# Altium footprint library CAP.PcbLib: 45 footprints (part 2 of 3)
Each footprint in its own frame and in the unit in brackets; x right, y up, seen from the top. Pads: shape width x height; smd on the part's side, far side on the other; paste and mask are expansions set on the pad; w line width, h text height; cw(c..) or ccw(c..) is an arc to the next point about the centre after c.
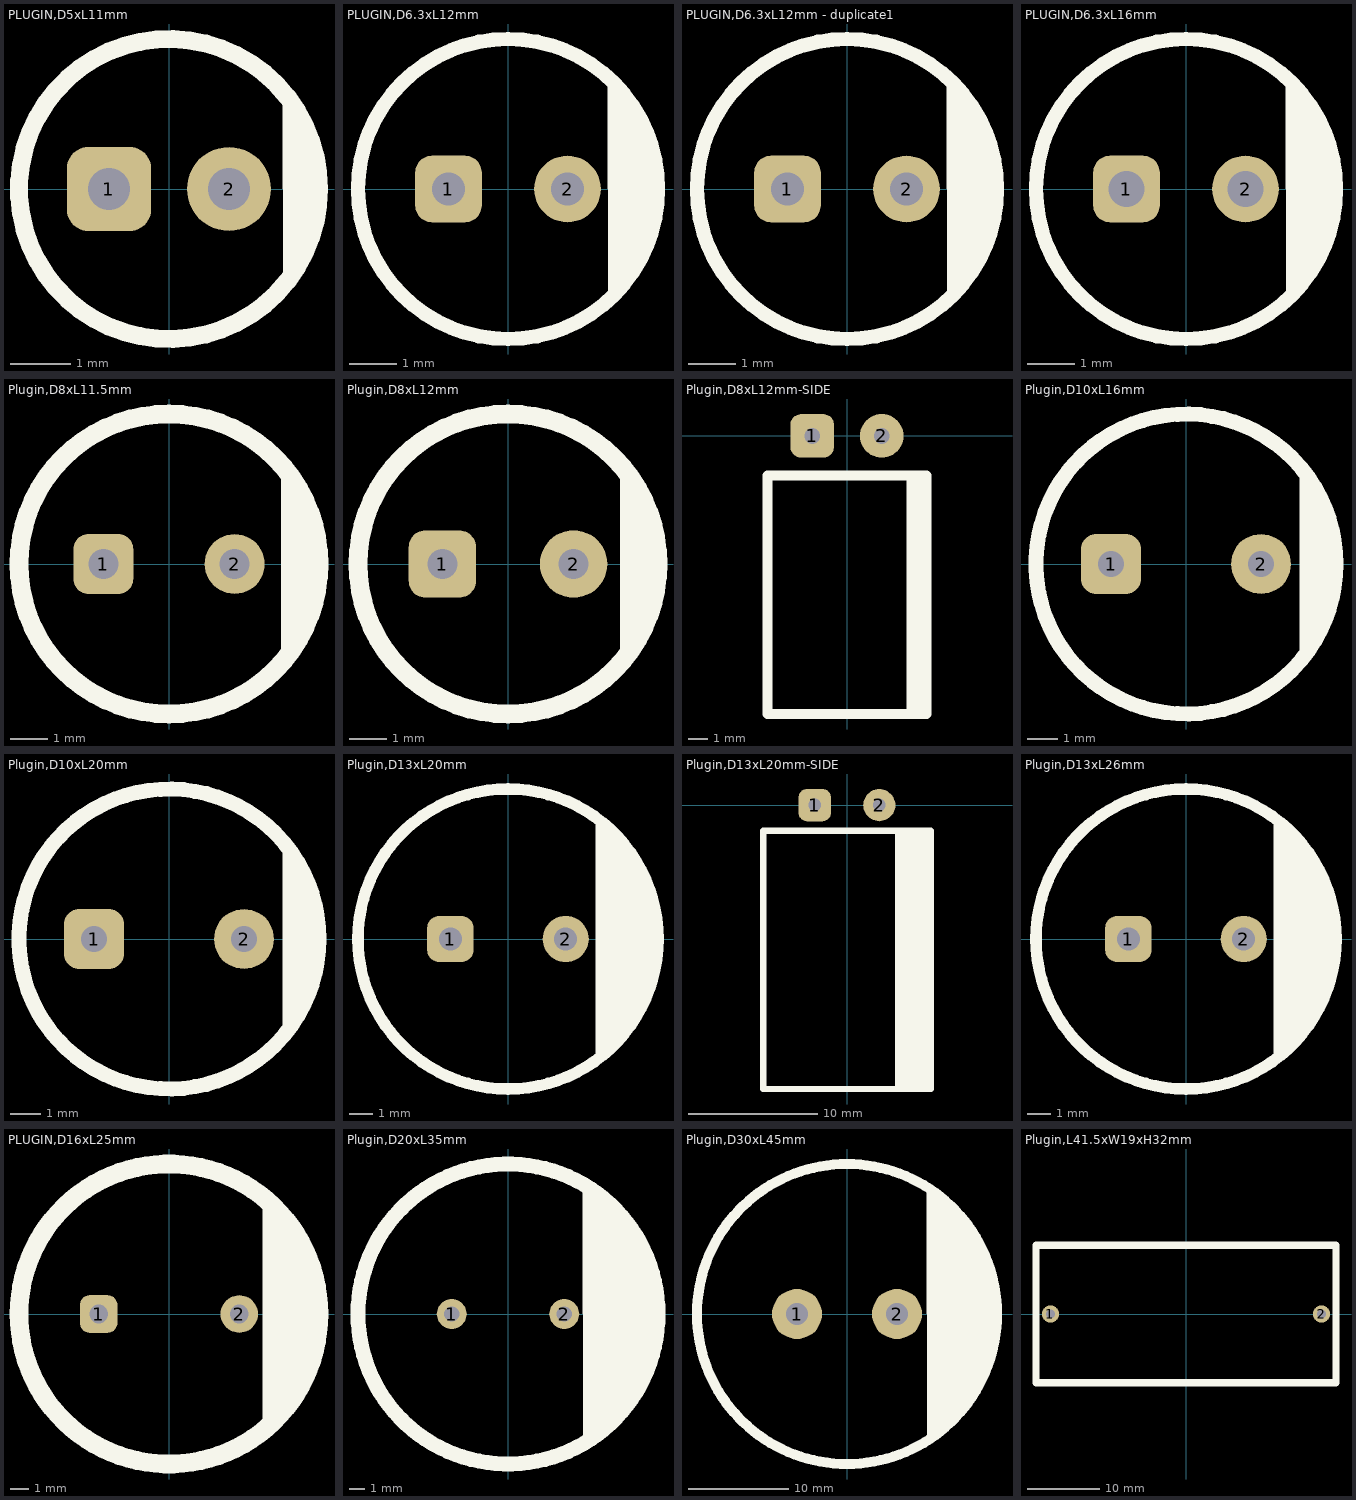
[diagram p1: the footprints below, top view; thin cyan lines are the x and y axes]

## PLUGIN,D5xL11mm [mm]
pads (2):
  rrect50% 1.4x1.4 hole 0.7: 1(-1,0)
  round 1.4 hole 0.7: 2(1,0)
Top Overlay:
  circle w0.3: c0,0 r2.5
  region: 1.9,1.625 1.9,-1.625 2.044,-1.456 2.268,-1.074 2.422,-0.658 2.5,-0.222 2.5,0 2.5,0.222 2.422,0.658 2.268,1.074 2.044,1.456
3D body "User Library-Cap electro 5x11x2mm.STEP": height 3.27, standoff -11.53, extent -2.525,-2.525 2.525,2.525

## PLUGIN,D6.3xL12mm [mm]
pads (2):
  rrect50% 1.4x1.4 hole 0.7: 1(-1.25,0)
  round 1.4 hole 0.7: 2(1.25,0)
Top Overlay:
  circle w0.3: c0,0 r3.15
  region: 2.1,2.348 2.1,-2.348 2.224,-2.237 2.446,-1.992 2.642,-1.724 2.808,-1.437 2.943,-1.135 3.046,-0.82 3.115,-0.495 3.15,-0.166 3.15,0 3.15,0.166 3.115,0.495 3.046,0.819 2.943,1.135 2.808,1.437 2.642,1.724 2.446,1.992 2.224,2.237
3D body "Plugin,D6.3xL12mm.stp": height 12, standoff -3.57, extent -3.15,-3.148 3.15,3.148

## PLUGIN,D6.3xL12mm - duplicate1 [mm]
pads (2):
  rrect50% 1.4x1.4 hole 0.7: 1(-1.25,0)
  round 1.4 hole 0.7: 2(1.25,0)
Top Overlay:
  circle w0.3: c0,0 r3.15
  region: 2.1,2.348 2.1,-2.348 2.224,-2.237 2.446,-1.992 2.642,-1.724 2.808,-1.437 2.943,-1.135 3.046,-0.82 3.115,-0.495 3.15,-0.166 3.15,0 3.15,0.166 3.115,0.495 3.046,0.819 2.943,1.135 2.808,1.437 2.642,1.724 2.446,1.992 2.224,2.237
3D body "Plugin,D6.3xL12mm.stp": height 12, standoff -3.57, extent -3.15,-3.148 3.15,3.148

## PLUGIN,D6.3xL16mm [mm]
pads (2):
  rrect50% 1.4x1.4 hole 0.75: 1(-1.25,0)
  round 1.4 hole 0.75: 2(1.25,0)
Top Overlay:
  circle w0.3: c0,0 r3.15
  region: 2.1,2.348 2.1,-2.348 2.224,-2.237 2.446,-1.992 2.642,-1.724 2.808,-1.437 2.943,-1.135 3.046,-0.82 3.115,-0.495 3.15,-0.166 3.15,0 3.15,0.166 3.115,0.495 3.046,0.819 2.943,1.135 2.808,1.437 2.642,1.724 2.446,1.992 2.224,2.237

## Plugin,D8xL11.5mm [mm]
pads (2):
  rrect50% 1.6x1.6 hole 0.8: 1(-1.75,0)
  round 1.6 hole 0.8: 2(1.75,0)
Top Overlay:
  circle w0.5: c0,0 r4
  region: 3,2.646 3,-2.646 3.12,-2.51 3.333,-2.218 3.52,-1.909 3.678,-1.583 3.806,-1.245 3.902,-0.897 3.967,-0.541 4,-0.181 4,0 4,0.181 3.967,0.541 3.902,0.897 3.806,1.245 3.678,1.583 3.52,1.909 3.333,2.218 3.12,2.51
3D body "User Library-Cap-EL(8x11_5-3_5).STEP": height 2.8, standoff -12, extent -4,-3.998 4.002,3.998

## Plugin,D8xL12mm [mm]
pads (2):
  rrect50% 1.8x1.8 hole 0.8: 1(-1.75,0)
  round 1.8 hole 0.8: 2(1.75,0)
Top Overlay:
  circle w0.5: c0,0 r4
  region: 3,2.646 3,-2.646 3.12,-2.51 3.333,-2.218 3.52,-1.909 3.678,-1.583 3.806,-1.245 3.902,-0.897 3.967,-0.541 4,-0.181 4,0 4,0.181 3.967,0.541 3.902,0.897 3.806,1.245 3.678,1.583 3.52,1.909 3.333,2.218 3.12,2.51
3D body "470uF 16V electr 8 x12mm -P.diameter 3.5mm-Black-White.stp": height 12.1, standoff -4, extent -4,-4 4,4

## Plugin,D8xL12mm-SIDE [mm]
pads (2):
  rrect50% 2.2x2.2 hole 0.8 mask+0.2: 1(-1.75,0)
  round 2.2 hole 0.8 mask+0.2: 2(1.75,0)
Top Overlay:
  rectangle: 3,-14 4,-2.064
  lines w0.5: -4,-14 -4,-2 4,-2 4,-14 -4,-14
3D body "ElCapRA-3.5-8x12-black.step": height 8.1, standoff -3, extent -4,-14.001 4.001,0.25

## Plugin,D10xL16mm [mm]
pads (2):
  rrect50% 2x2 hole 0.85 mask+0.2: 1(-2.5,0)
  round 2 hole 0.85 mask+0.2: 2(2.5,0)
Top Overlay:
  circle w0.5: c0,0 r5
  region: 3.8,3.25 3.8,-3.25 3.944,-3.081 4.201,-2.721 4.424,-2.339 4.614,-1.94 4.767,-1.525 4.883,-1.098 4.961,-0.662 5,-0.221 5,0 5,0.221 4.961,0.662 4.883,1.098 4.767,1.524 4.614,1.94 4.424,2.339 4.201,2.721 3.944,3.081
3D body "470uF 35V electr 10 x16mm  -P.diameter 5mm-Brown-1-White.stp": height 16.1, standoff -4, extent -5,-5 5,5

## Plugin,D10xL20mm [mm]
pads (2):
  rrect50% 2x2 hole 0.85 mask+0.2: 1(-2.5,0)
  round 2 hole 0.85 mask+0.2: 2(2.5,0)
Top Overlay:
  circle w0.5: c0,0 r5
  region: 3.8,3.25 3.8,-3.25 3.944,-3.081 4.201,-2.721 4.424,-2.339 4.614,-1.94 4.767,-1.525 4.883,-1.098 4.961,-0.662 5,-0.221 5,0 5,0.221 4.961,0.662 4.883,1.098 4.767,1.524 4.614,1.94 4.424,2.339 4.201,2.721 3.944,3.081
3D body "User Library-Cap-EL(10x20-5).STEP": height 20, standoff -3.3, extent -5,-5 5.002,5

## Plugin,D13xL20mm [mm]
pads (2):
  rrect50% 2x2 hole 1 mask+0.2: 1(-2.5,0)
  round 2 hole 1 mask+0.2: 2(2.5,0)
Top Overlay:
  circle w0.5: c0,0 r6.5
  region: 3.8,5.273 3.8,-5.274 4.112,-5.048 4.679,-4.528 5.181,-3.944 5.61,-3.305 5.961,-2.62 6.229,-1.898 6.409,-1.149 6.5,-0.385 6.5,0 6.5,0.385 6.409,1.149 6.229,1.898 5.961,2.62 5.61,3.305 5.181,3.944 4.679,4.528 4.112,5.048
3D body "1000uF 35V electr 13 x20mm -P.diameter 6.5mm-Black-White.stp": height 3.1, standoff -21, extent -6.5,-6.5 6.5,6.5

## Plugin,D13xL20mm-SIDE [mm]
pads (2):
  rrect50% 2.5x2.5 hole 1 mask+0.2: 1(-2.5,0)
  round 2.5 hole 1 mask+0.2: 2(2.5,0)
Top Overlay:
  rectangle: 3.734,-22 6.5,-2
  lines w0.5: -6.5,-22 -6.5,-2 6.5,-2 6.5,-22 -6.5,-22
3D body "ElCapRA-5.0-13x20-black.step": height 13.1, standoff -3, extent -6.5,-22.001 6.501,0.699

## Plugin,D13xL26mm [mm]
pads (2):
  rrect50% 2x2 hole 1 mask+0.2: 1(-2.5,0)
  round 2 hole 1 mask+0.2: 2(2.5,0)
Top Overlay:
  circle w0.5: c0,0 r6.5
  region: 3.8,5.273 3.8,-5.273 4.112,-5.048 4.679,-4.528 5.181,-3.944 5.61,-3.305 5.961,-2.62 6.229,-1.898 6.409,-1.149 6.5,-0.385 6.5,0 6.5,0.385 6.409,1.149 6.229,1.898 5.961,2.62 5.61,3.305 5.181,3.944 4.679,4.528 4.112,5.048
3D body "2200uF 25V electr 13 x26mm -P.diameter 6.5mm-Black-White.stp": height 26.1, standoff -4, extent -6.5,-6.499 6.5,6.499

## PLUGIN,D16xL25mm [mm]
pads (2):
  rrect50% 2x2 hole 1 mask+0.2: 1(-3.75,0)
  round 2 hole 1 mask+0.2: 2(3.75,0)
Top Overlay:
  circle w1: c0,0 r8
  region: 5,6.191 5,-6.184 5.328,-5.91 5.919,-5.294 6.44,-4.617 6.885,-3.887 7.246,-3.114 7.521,-2.305 7.707,-1.471 7.8,-0.622 7.8,-0.195 7.8,0.208 7.8,0.635 7.707,1.483 7.521,2.316 7.246,3.124 6.884,3.897 6.44,4.626 5.919,5.302 5.328,5.918
3D body "1000uF 63V electr -16x26mm -P.diameter 7.5mm .stp": height 26, standoff -3.57, extent -8,-7.999 8,7.999

## Plugin,D20xL35mm [mm]
pads (2):
  round 2 hole 1: 1(-3.75,0) 2(3.75,0)
Top Overlay:
  circle w1: c0,0 r10
  region: 5,8.66 5,-8.642 5.378,-8.424 6.092,-7.925 6.761,-7.364 7.378,-6.748 7.938,-6.08 8.439,-5.366 8.875,-4.611 9.244,-3.821 9.542,-3.001 9.768,-2.159 9.919,-1.3 9.995,-0.431 9.995,0.005 9.995,0.441 9.919,1.31 9.768,2.169 9.542,3.012 9.244,3.832 8.875,4.623 8.439,5.379 7.938,6.094 7.378,6.762 6.761,7.38 6.092,7.941 5.378,8.441
3D body "4700uF 35V Electr 20 x35 -P.diameter 10mm-Black-White.stp": height 35, standoff -4.1, extent -10,-9.996 10,9.996

## Plugin,D30xL45mm [mm]
pads (2):
  round 5 hole 2.2 mask+2: 1(-5,0) 2(5,0)
Top Overlay:
  circle w1: c0,0 r15
  region: 8,12.689 8,-12.689 8.4,-12.436 9.166,-11.883 9.897,-11.282 10.587,-10.636 11.236,-9.948 11.84,-9.221 12.398,-8.457 12.906,-7.66 13.362,-6.832 13.766,-5.977 14.115,-5.098 14.408,-4.199 14.644,-3.283 14.822,-2.355 14.94,-1.416 15,-0.473 15,0 15,0.473 14.94,1.416 14.822,2.355 14.644,3.283 14.408,4.199 14.115,5.098 13.766,5.977 13.362,6.832 12.906,7.66 12.398,8.457 11.84,9.221 11.236,9.948 10.587,10.636 9.897,11.282 9.166,11.883 8.4,12.436
3D body "CAP_MXC_30X45_RUB.step": height 47.11, standoff -8.46, extent -15.494,-15.494 15.529,15.494

## Plugin,L41.5xW19xH32mm [mm]
pads (2):
  round 2.4 hole 1.2 mask+0.3: 1(-18.75,0) 2(18.75,0)
Top Overlay:
  lines w1: -20.75,-9.5 20.75,-9.5 20.75,9.5 -20.75,9.5 -20.75,-9.5
3D body "MKP10_19_0WX32_0HX41_5L_2PIN_WIM.step": height 32, standoff -5.51, extent -20.752,-9.5 20.752,9.5